# Altium footprint library LIANGJICHAO_LIBRARY.PCBLIB: 178 footprints (part 8 of 12)
Each footprint in its own frame and in the unit in brackets; x right, y up, seen from the top. Pads: shape width x height; smd on the part's side, far side on the other; paste and mask are expansions set on the pad; w line width, h text height; cw(c..) or ccw(c..) is an arc to the next point about the centre after c.
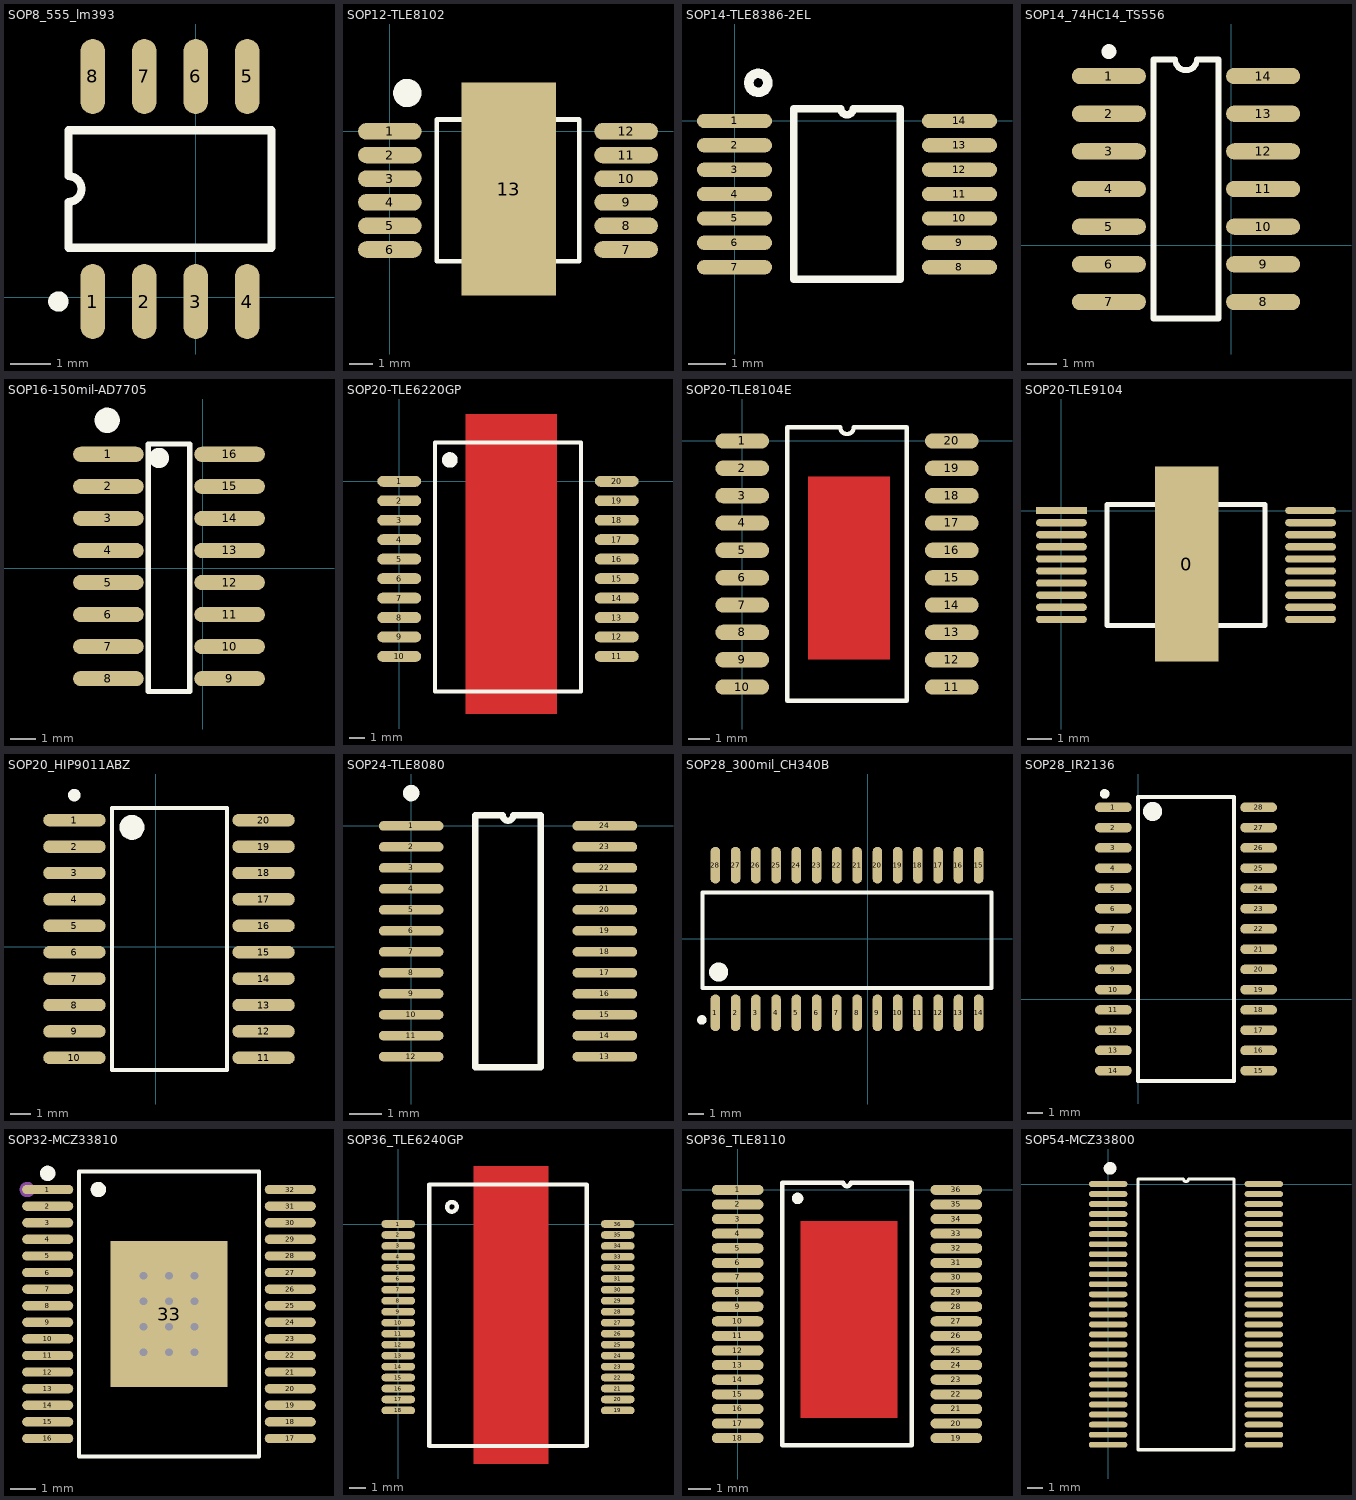
[diagram p7: the footprints below, top view; thin cyan lines are the x and y axes]

## SOP8_555_lm393 [mm]
pads (8):
  oval 0.6x1.85 smd: 1(-2.54,-0.108) 2(-1.27,-0.108) 3(0,-0.108) 4(1.27,-0.108) 5(1.27,5.442) 6(0,5.442) 7(-1.27,5.442) 8(-2.54,5.442)
Top Overlay:
  circle w0.25: c-3.39,-0.108 r0.125
  lines w0.2: -3.135,1.217 1.865,1.217 1.865,4.117 -3.135,4.117 -3.135,2.984 cw(c-3.135,2.667) -3.135,2.349 -3.135,1.217

## SOP12-TLE8102 [mm]
pads (13):
  oval 2.7x0.7 smd: 1(0,0) 2(0,-1) 3(0,-2) 4(0,-3) 5(0,-4) 6(0,-5) 7(10,-5) 8(10,-4) 9(10,-3) 10(10,-2) 11(10,-1) 12(10,0)
  rect 4x9 smd: 13(5.029,-2.438)
Top Overlay:
  circle w0.584: c0.736,1.626 r0.306
  lines w0.2: 1.985,-5.5 1.985,0.5 4.75,0.5 ccw(c5,0.5) 5.25,0.5 8.015,0.5 8.015,-5.5 1.985,-5.5

## SOP14-TLE8386-2EL [mm]
pads (14):
  oval 2x0.38 smd: 1(0,0) 2(0,-0.65) 3(0,-1.3) 4(0,-1.95) 5(0,-2.6) 6(0,-3.25) 7(0,-3.9) 8(6,-3.9) 9(6,-3.25) 10(6,-2.6) 11(6,-1.95) 12(6,-1.3) 13(6,-0.65) 14(6,0)
Top Overlay:
  circle w0.254: c0.635,1.016 r0.254
  lines w0.2: 1.585,-4.225 4.415,-4.225 4.415,0.325 3.162,0.325 cw(c3,0.325) 2.838,0.325 1.585,0.325 1.585,-4.225

## SOP14_74HC14_TS556 [mm]
pads (14):
  oval 2.5x0.55 smd: 1(-4.124,5.715) 2(-4.124,4.445) 3(-4.124,3.175) 4(-4.124,1.905) 5(-4.124,0.635) 6(-4.124,-0.635) 7(-4.124,-1.905) 8(1.076,-1.905) 9(1.076,-0.635) 10(1.076,0.635) 11(1.076,1.905) 12(1.076,3.175) 13(1.076,4.445) 14(1.076,5.715)
Top Overlay:
  circle w0.25: c-4.124,6.54 r0.125
  lines w0.2: -2.624,-2.47 -0.424,-2.47 -0.424,6.28 -1.157,6.28 cw(c-1.524,6.28) -1.891,6.28 -2.624,6.28 -2.624,-2.47

## SOP16-150mil-AD7705 [mm]
pads (16):
  oval 2.8x0.6 smd: 1(-3.733,4.521) 2(-3.733,3.251) 3(-3.733,1.981) 4(-3.733,0.711) 5(-3.733,-0.559) 6(-3.733,-1.829) 7(-3.733,-3.099) 8(-3.733,-4.369) 9(1.067,-4.369) 10(1.067,-3.099) 11(1.067,-1.829) 12(1.067,-0.559) 13(1.067,0.711) 14(1.067,1.981) 15(1.067,3.251) 16(1.067,4.521)
Top Overlay:
  circle w0.5: c-3.782,5.867 r0.25
  circle w0.4: c-1.733,4.376 r0.2
  lines w0.2: -2.155,-4.875 -0.511,-4.875 -0.511,4.925 -2.155,4.925 -2.155,-4.875

## SOP20-TLE6220GP [mil]
pads (20):
  oval 113x28 smd: 1(0,0) 2(0,-50) 3(0,-100) 4(0,-150) 5(0,-200) 6(0,-250) 7(0,-300) 8(0,-350) 9(0,-400) 10(0,-450) 11(559.06,-450) 12(559.06,-400) 13(559.06,-350) 14(559.06,-300) 15(559.06,-250) 16(559.06,-200) 17(559.06,-150) 18(559.06,-100) 19(559.06,-50) 20(559.05,0)
Top Layer:
  rectangle: 170,-598 405,173
Top Overlay:
  circle w10: c130,55 r15
  circle w11.81: c130,55 r5
  lines w10: 91.93,-540 91.93,100 467.13,100 467.13,-540 91.93,-540
Top Solder:
  rectangle: 170,-585 405,140

## SOP20-TLE8104E [mm]
pads (20):
  oval 2.5x0.711 smd: 1(0,0) 2(0,-1.27) 3(0,-2.54) 4(0,-3.81) 5(0,-5.08) 6(0,-6.35) 7(0,-7.62) 8(0,-8.89) 9(0,-10.16) 10(0,-11.43) 11(9.73,-11.43) 12(9.73,-10.16) 13(9.73,-8.89) 14(9.73,-7.62) 15(9.73,-6.35) 16(9.73,-5.08) 17(9.73,-3.81) 18(9.73,-2.54) 19(9.73,-1.27) 20(9.73,0)
Top Layer:
  rectangle: 3.048,-10.16 6.858,-1.651
Top Overlay:
  lines w0.2: 2.085,-12.065 7.645,-12.065 7.645,0.635 5.182,0.635 cw(c4.865,0.635) 4.547,0.635 2.085,0.635 2.085,-12.065
Top Solder:
  rectangle: 3.048,-10.16 6.858,-1.651

## SOP20-TLE9104 [mm]
pads (21):
  rect 2.608x8.08 smd: 0(5.182,-2.21)
  rect 2.1x0.3 smd: 1(0,0)
  oval 2.1x0.3 smd: 2(0,-0.5) 3(0,-1) 4(0,-1.5) 5(0,-2) 6(0,-2.5) 7(0,-3) 8(0,-3.5) 9(0,-4) 10(0,-4.5) 11(10.3,-4.5) 12(10.3,-4) 13(10.3,-3.5) 14(10.3,-3) 15(10.3,-2.5) 16(10.3,-2) 17(10.3,-1.5) 18(10.3,-1) 19(10.3,-0.5) 20(10.3,0)
Top Overlay:
  lines w0.2: 1.885,-4.75 1.885,0.25 5.025,0.25 ccw(c5.15,0.25) 5.275,0.25 8.415,0.25 8.415,-4.75 1.885,-4.75

## SOP20_HIP9011ABZ [mm]
pads (20):
  oval 3x0.6 smd: 1(-3.906,6.086) 2(-3.906,4.816) 3(-3.906,3.546) 4(-3.906,2.276) 5(-3.906,1.006) 6(-3.906,-0.264) 7(-3.906,-1.534) 8(-3.906,-2.804) 9(-3.906,-4.074) 10(-3.906,-5.344) 11(5.194,-5.344) 12(5.194,-4.074) 13(5.194,-2.804) 14(5.194,-1.534) 15(5.194,-0.264) 16(5.194,1.006) 17(5.194,2.276) 18(5.194,3.546) 19(5.194,4.816) 20(5.194,6.086)
Top Overlay:
  circle w0.6: c-1.138,5.74 r0.3
  circle w0.3: c-3.909,7.29 r0.15
  lines w0.2: -2.102,-5.929 3.441,-5.929 3.441,6.671 -2.102,6.671 -2.102,-5.929

## SOP24-TLE8080 [mm]
pads (24):
  oval 2x0.3 smd: 1(0,0) 2(0,-0.65) 3(0,-1.3) 4(0,-1.95) 5(0,-2.6) 6(0,-3.25) 7(0,-3.9) 8(0,-4.55) 9(0,-5.2) 10(0,-5.85) 11(0,-6.5) 12(0,-7.15) 13(6,-7.15) 14(6,-6.5) 15(6,-5.85) 16(6,-5.2) 17(6,-4.55) 18(6,-3.9) 19(6,-3.25) 20(6,-2.6) 21(6,-1.95) 22(6,-1.3) 23(6,-0.65) 24(6,0)
Top Overlay:
  circle w0.254: c0,1.016 r0.127
  lines w0.2: 1.985,-7.475 1.985,0.325 2.838,0.325 ccw(c3,0.325) 3.162,0.325 4.015,0.325 4.015,-7.475 1.985,-7.475

## SOP28_300mil_CH340B [mm]
pads (28):
  oval 0.6x2.3 smd: 1(-9.561,-4.653) 2(-8.291,-4.653) 3(-7.021,-4.653) 4(-5.751,-4.653) 5(-4.481,-4.653) 6(-3.211,-4.653) 7(-1.941,-4.653) 8(-0.671,-4.653) 9(0.599,-4.653) 10(1.869,-4.653) 11(3.139,-4.653) 12(4.409,-4.653) 13(5.679,-4.653) 14(6.949,-4.653) 15(6.944,4.597) 16(5.679,4.597) 17(4.409,4.597) 18(3.139,4.597) 19(1.869,4.597) 20(0.599,4.597) 21(-0.671,4.597) 22(-1.941,4.597) 23(-3.211,4.597) 24(-4.481,4.597) 25(-5.751,4.597) 26(-7.021,4.597) 27(-8.291,4.597) 28(-9.561,4.597)
Top Overlay:
  circle w0.6: c-9.356,-2.103 r0.3
  circle w0.3: c-10.406,-5.103 r0.15
  lines w0.254: -10.356,-3.103 7.744,-3.103 7.744,2.897 -10.356,2.897 -10.356,-3.103

## SOP28_IR2136 [mm]
pads (28):
  oval 2.3x0.6 smd: 1(-1.553,12.035) 2(-1.553,10.765) 3(-1.553,9.495) 4(-1.553,8.225) 5(-1.553,6.955) 6(-1.553,5.685) 7(-1.553,4.415) 8(-1.553,3.145) 9(-1.553,1.875) 10(-1.553,0.605) 11(-1.553,-0.665) 12(-1.553,-1.935) 13(-1.553,-3.205) 14(-1.553,-4.475) 15(7.547,-4.475) 16(7.547,-3.205) 17(7.547,-1.935) 18(7.547,-0.665) 19(7.547,0.605) 20(7.547,1.875) 21(7.547,3.145) 22(7.547,4.415) 23(7.547,5.685) 24(7.547,6.955) 25(7.547,8.225) 26(7.547,9.495) 27(7.547,10.765) 28(7.547,12.035)
Top Overlay:
  circle w0.6: c0.897,11.78 r0.3
  circle w0.3: c-2.103,12.88 r0.15
  lines w0.254: -0.003,-5.12 -0.003,12.68 5.997,12.68 5.997,-5.12 -0.003,-5.12

## SOP32-MCZ33810 [mm]
pads (33):
  oval 2.002x0.364 smd: 1(4.963,-1.775) 2(4.963,-2.425) 3(4.963,-3.075) 4(4.963,-3.725) 5(4.963,-4.375) 6(4.963,-5.025) 7(4.963,-5.675) 8(4.963,-6.325) 9(4.963,-6.975) 10(4.963,-7.625) 11(4.963,-8.275) 12(4.963,-8.925) 13(4.963,-9.575) 14(4.963,-10.225) 15(4.963,-10.875) 16(4.963,-11.525) 17(14.465,-11.525) 18(14.465,-10.875) 19(14.465,-10.225) 20(14.465,-9.575) 21(14.465,-8.925) 22(14.465,-8.275) 23(14.465,-7.625) 24(14.465,-6.975) 25(14.465,-6.325) 26(14.465,-5.675) 27(14.465,-5.025) 28(14.465,-4.375) 29(14.465,-3.725) 30(14.465,-3.075) 31(14.465,-2.425) 32(14.465,-1.775)
  rect 4.6x5.7 smd: 33(9.714,-6.65)
via 8.714,-8.15 diameter 0.61 hole 0.305
via 8.714,-7.15 diameter 0.61 hole 0.305
via 8.714,-6.15 diameter 0.61 hole 0.305
via 8.714,-5.15 diameter 0.61 hole 0.305
via 9.714,-5.15 diameter 0.61 hole 0.305
via 9.714,-6.15 diameter 0.61 hole 0.305
via 9.714,-7.15 diameter 0.61 hole 0.305
via 9.714,-8.15 diameter 0.61 hole 0.305
via 10.714,-8.15 diameter 0.61 hole 0.305
via 10.714,-7.15 diameter 0.61 hole 0.305
via 10.714,-6.15 diameter 0.61 hole 0.305
via 10.714,-5.15 diameter 0.61 hole 0.305
Top Overlay:
  circle w0.3: c4.963,-1.141 r0.15
  circle w0.3: c6.945,-1.775 r0.15
  lines w0.152: 6.193,-12.226 6.193,-1.074 13.236,-1.074 13.236,-12.226 6.193,-12.226
Mechanical 15:
  circle w0.3: c4.164,-1.775 r0.15

## SOP36_TLE6240GP [mm]
pads (36):
  oval 2x0.45 smd: 1(0,0) 2(0,-0.65) 3(0,-1.3) 4(0,-1.95) 5(0,-2.6) 6(0,-3.25) 7(0,-3.9) 8(0,-4.55) 9(0,-5.2) 10(0,-5.85) 11(0,-6.5) 12(0,-7.15) 13(0,-7.8) 14(0,-8.45) 15(0,-9.1) 16(0,-9.75) 17(0,-10.4) 18(0,-11.05) 19(13,-11.05) 20(13,-10.4) 21(13,-9.75) 22(13,-9.1) 23(13,-8.45) 24(13,-7.8) 25(13,-7.15) 26(13,-6.5) 27(13,-5.85) 28(13,-5.2) 29(13,-4.55) 30(13,-3.9) 31(13,-3.25) 32(13,-2.6) 33(13,-1.95) 34(13,-1.3) 35(13,-0.65) 36(13,0)
Top Layer:
  rectangle: 4.445,-14.224 8.89,3.429
Top Overlay:
  circle w0.254: c3.175,1.016 r0.284
  circle w0.254: c3.175,1.016 r0.284
  lines w0.254: 11.154,2.343 1.835,2.343 1.835,0.325 1.835,-13.153 11.165,-13.153 11.165,0.325 11.165,2.332
Top Solder:
  rectangle: 4.445,-14.224 8.89,3.556

## SOP36_TLE8110 [mm]
pads (36):
  oval 2.3x0.45 smd: 1(0,0) 2(0,-0.65) 3(0,-1.3) 4(0,-1.95) 5(0,-2.6) 6(0,-3.25) 7(0,-3.9) 8(0,-4.55) 9(0,-5.2) 10(0,-5.85) 11(0,-6.5) 12(0,-7.15) 13(0,-7.8) 14(0,-8.45) 15(0,-9.1) 16(0,-9.75) 17(0,-10.4) 18(0,-11.05) 19(9.73,-11.05) 20(9.73,-10.4) 21(9.73,-9.75) 22(9.73,-9.1) 23(9.73,-8.45) 24(9.73,-7.8) 25(9.73,-7.15) 26(9.73,-6.5) 27(9.73,-5.85) 28(9.73,-5.2) 29(9.73,-4.55) 30(9.73,-3.9) 31(9.73,-3.25) 32(9.73,-2.6) 33(9.73,-1.95) 34(9.73,-1.3) 35(9.73,-0.65) 36(9.73,0)
Top Layer:
  rectangle: 2.794,-10.16 7.112,-1.397
Top Overlay:
  circle w0.254: c2.667,-0.381 r0.127
  lines w0.2: 1.985,-11.375 1.985,0.325 4.703,0.325 ccw(c4.865,0.325) 5.027,0.325 7.745,0.325 7.745,-11.375 1.985,-11.375

## SOP54-MCZ33800 [mm]
pads (54):
  oval 2.5x0.38 smd: 1(0,0) 2(0,-0.65) 3(0,-1.3) 4(0,-1.95) 5(0,-2.6) 6(0,-3.25) 7(0,-3.9) 8(0,-4.55) 9(0,-5.2) 10(0,-5.85) 11(0,-6.5) 12(0,-7.15) 13(0,-7.8) 14(0,-8.45) 15(0,-9.1) 16(0,-9.75) 17(0,-10.4) 18(0,-11.05) 19(0,-11.7) 20(0,-12.35) 21(0,-13) 22(0,-13.65) 23(0,-14.3) 24(0,-14.95) 25(0,-15.6) 26(0,-16.25) 27(0,-16.9) 28(10.1,-16.9) 29(10.1,-16.25) 30(10.1,-15.6) 31(10.1,-14.95) 32(10.1,-14.3) 33(10.1,-13.65) 34(10.1,-13) 35(10.1,-12.35) 36(10.1,-11.7) 37(10.1,-11.05) 38(10.1,-10.4) 39(10.1,-9.75) 40(10.1,-9.1) 41(10.1,-8.45) 42(10.1,-7.8) 43(10.1,-7.15) 44(10.1,-6.5) 45(10.1,-5.85) 46(10.1,-5.2) 47(10.1,-4.55) 48(10.1,-3.9) 49(10.1,-3.25) 50(10.1,-2.6) 51(10.1,-1.95) 52(10.1,-1.3) 53(10.1,-0.65) 54(10.1,0)
Top Overlay:
  circle w0.254: c0.127,1.016 r0.284
  lines w0.2: 1.935,-17.225 1.935,0.325 4.888,0.325 ccw(c5.05,0.325) 5.212,0.325 8.165,0.325 8.165,-17.225 1.935,-17.225
  lines w0.254: 0.25,1.047 ccw(c0.127,1.016) 0.254,1.016